# Altium schematic symbol library Socket-Library.SchLib: 8 symbols
Pins are listed as number, name and electrical type; pins without a type are passive.

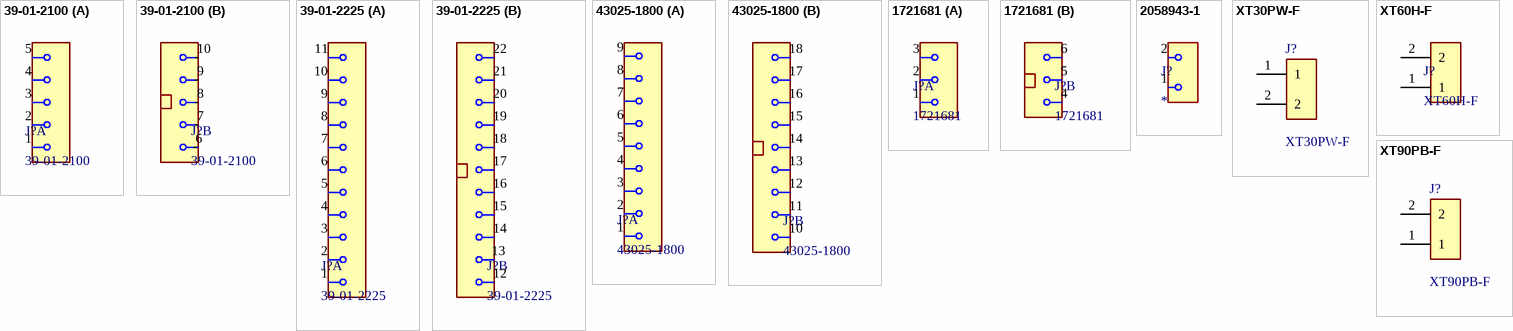
[diagram p0: symbols 39-01-2100 to XT90PB-F]

## 39-01-2100
designator J?
Power Connector, 10 Contact(s), Female, Crimp Terminal, Receptacle; Manufacturer: Molex; Connector Type: Power,Rectangular; Option: General Purpose; Filter Feature: No; Throw Configuration: S0P10; Contact Resistance: 10mR; Contact Style: SQ PIN-SKT; Dielectric Withstanding Voltage (AC): 1.5kV; Insertion Force-Max: 14.6784N; Insulation Resistance: 1GR; Mating Information: MULTIPLE MATING PARTS AVAILABLE; Number Of Connectors: 1; Number of Contacts: 10; Body Breadth: 0.46inch; Body Depth: 0.77inch; Body Length: 0.874inch; Mounting Option 1: LOCKING; Reference Standard: UL; Reliability: COMMERCIAL; Supplier: Farnell; Supplier Part Number: 2751634; Manufacturer Part Number: 39-01-2100; RoHS: Yes; Category: Headers and Wire Housings; Stock: 27370; Mounting Technology: Cable; Contact Finish - Mating: NOT SPECIFIED; Insulation Material: Nylon; Insulation Color: Natural; Shell Material: POLYAMIDE66; Body/Shell Style: RECEPTACLE; Mounting Style: STRAIGHT; Contact Gender: Female; Empty Shell: No; Mixed Contacts: No; Termination: Crimp; Flammability Rating: UL94 V-2; DIN Conformance: No; IEC Conformance: No; MIL Conformance: No; Reach SVHC Compliant: Yes; RoHS Compliant: Yes; ComponentLink1URL: https://datasheet.ciiva.com:443/pdfs/VipMasterIC/IC/MOLE/MOLE-S-A0003536895/MOLE-S-A0003534376-1.pdf?src-supplier=IHS+Markit; ComponentLink1Description: https://datasheet.ciiva.com:443/pdfs/VipMasterIC/IC/MOLE/MOLE-S-A0003536895/MOLE-S-A0003534376-1.pdf?src-supplier=IHS+Markit; ComponentLink2URL: https://datasheet.ciiva.com/19473/1968566-19473030.pdf?src-supplier=Jameco; ComponentLink2Description: https://datasheet.ciiva.com/19473/1968566-19473030.pdf?src-supplier=Jameco; ComponentLink3URL: https://datasheet.ciiva.com/16127/0039012100-crimp-housings-16127171.pdf?src-supplier=Onlinecomponents.com; ComponentLink3Description: https://datasheet.ciiva.com/16127/0039012100-crimp-housings-16127171.pdf?src-supplier=Onlinecomponents.com; ComponentLink4URL: https://datasheet.ciiva.com/11740/0900766b80460d92-11740879.pdf?src-supplier=Rs; ComponentLink4Description: https://datasheet.ciiva.com/11740/0900766b80460d92-11740879.pdf?src-supplier=Rs; ComponentLink5URL: https://datasheet.ciiva.com/5150/0039012100-crimp-housings-140011-5150159.pdf?src-supplier=Mouser; ComponentLink5Description: https://datasheet.ciiva.com/5150/0039012100-crimp-housings-140011-5150159.pdf?src-supplier=Mouser; ComponentLink6URL: https://datasheet.ciiva.com/1446/1923999-1446502.pdf?src-supplier=Element14; ComponentLink6Description: https://datasheet.ciiva.com/1446/1923999-1446502.pdf?src-supplier=Element14; ComponentLink7URL: https://datasheet.ciiva.com/10392/0039012100-crimp-housings-10392202.pdf?src-supplier=Avnet; ComponentLink7Description: https://datasheet.ciiva.com/10392/0039012100-crimp-housings-10392202.pdf?src-supplier=Avnet; ComponentLink8URL: https://datasheet.ciiva.com/30093/107550039012100-crimp-housings-30093659.pdf?src-supplier=Onlinecomponents.com; ComponentLink8Description: https://datasheet.ciiva.com/30093/107550039012100-crimp-housings-30093659.pdf?src-supplier=Onlinecomponents.com; ComponentLink9URL: https://datasheet.ciiva.com/18453/70190738-18453660.pdf?src-supplier=Allied+Electronics; ComponentLink9Description: https://datasheet.ciiva.com/18453/70190738-18453660.pdf?src-supplier=Allied+Electronics
footprint 39-01-2100
part A pins: 1, 2, 3, 4, 5
part B pins: 6, 7, 8, 9, 10

## 39-01-2225
designator J?
Power Connector, 22 Contact(s), Female, Crimp Terminal, Receptacle; Manufacturer: Molex; Connector Type: Power,Rectangular; Throw Configuration: S0P22; Option: General Purpose; Contact Resistance: 10mR; Contact Style: SQ PIN-SKT; Dielectric Withstanding Voltage (AC): 1.5kV; Empty Shell: No; Insertion Force-Max: 14.6784N; Insulation Resistance: 1GR; Mating Information: MULTIPLE MATING PARTS AVAILABLE; Number Of Connectors: 1; Number of Contacts: 22; Body Breadth: 0.46inch; Body Depth: 0.77inch; Body Length: 1.866inch; Mounting Option 1: LOCKING; Reference Standard: UL; Reliability: COMMERCIAL; Supplier: Rs; Supplier Part Number: 6704562; Manufacturer Part Number: 39-01-2225; RoHS: Yes; Category: Connectors; Stock: 520; Mounting Technology: Cable; Contact Finish - Mating: NOT SPECIFIED; Insulation Color: Natural; Insulation Material: Nylon; Shell Material: POLYAMIDE66; Body/Shell Style: RECEPTACLE; Contact Gender: Female; Filter Feature: No; Mixed Contacts: No; Mounting Style: STRAIGHT; Termination: Crimp; Flammability Rating: UL94 V-0; Reach SVHC Compliant: Yes; RoHS Compliant: Yes; DIN Conformance: No; IEC Conformance: No; MIL Conformance: No; ComponentLink1URL: https://datasheet.ciiva.com:443/pdfs/VipMasterIC/IC/MOLE/MOLE-S-A0003536895/MOLE-S-A0003534376-1.pdf?src-supplier=IHS+Markit; ComponentLink1Description: https://datasheet.ciiva.com:443/pdfs/VipMasterIC/IC/MOLE/MOLE-S-A0003536895/MOLE-S-A0003534376-1.pdf?src-supplier=IHS+Markit; ComponentLink2URL: https://datasheet.ciiva.com/19473/1968662-19473339.pdf?src-supplier=Jameco; ComponentLink2Description: https://datasheet.ciiva.com/19473/1968662-19473339.pdf?src-supplier=Jameco; ComponentLink3URL: https://datasheet.ciiva.com/10401/0039012225-crimp-housings-10401042.pdf?src-supplier=Avnet; ComponentLink3Description: https://datasheet.ciiva.com/10401/0039012225-crimp-housings-10401042.pdf?src-supplier=Avnet; ComponentLink4URL: https://datasheet.ciiva.com/16127/983660039012225-crimp-housings-16127278.pdf?src-supplier=Onlinecomponents.com; ComponentLink4Description: https://datasheet.ciiva.com/16127/983660039012225-crimp-housings-16127278.pdf?src-supplier=Onlinecomponents.com; ComponentLink5URL: https://datasheet.ciiva.com/15217/getdatasheetpartid-296930-15217964.pdf?src-supplier=Verical; ComponentLink5Description: https://datasheet.ciiva.com/15217/getdatasheetpartid-296930-15217964.pdf?src-supplier=Verical
footprint 39-01-2225
part A pins: 1, 2, 3, 4, 5, 6, 7, 8, 9, 10, 11
part B pins: 12, 13, 14, 15, 16, 17, 18, 19, 20, 21, 22

## 43025-1800
designator J?
Power Connector, 18 Contact(s), 2 Row(s), Female, 0.118 inch Pitch, Crimp Terminal, Locking, Black Insulator, Receptacle; Manufacturer: Molex; Connector Type: BOARD CONNECTOR; Throw Configuration: S0P18; Option: General Purpose; Contact Resistance: 10mR; Contact Style: SQ PIN-SKT; Filter Feature: No; Insertion Force-Max: 8.0064N; Insulation Resistance: 1GR; Mating Information: MULTIPLE MATING PARTS AVAILABLE; Number Of Connectors: 1; Number of Rows Loaded: 2; Rated Current (Signal): 2.5A; Number of Contacts: 18; Withdrawl Force-Min: 3.5584N; Body Breadth: 0.326inch; Body Depth: 0.551inch; Body Length: 1.096inch; Reference Standard: UL; Reliability: COMMERCIAL; Supplier: Farnell; Supplier Part Number: 4234966; Manufacturer Part Number: 43025-1800; RoHS: Yes; Category: Card Edge Connectors; Stock: 9541; Mounting Technology: Cable; Insulation Color: Black; Insulation Material: Polyester; Min Operating Temperature: -40°C; Max Operating Temperature: 105°C; Body/Shell Style: RECEPTACLE; Contact Gender: Female; Mixed Contacts: No; Mounting Style: STRAIGHT; Termination: Crimp; Terminal Pitch: 3mm; Mounting Option 1: LOCKING; Flammability Rating: UL94 V-0; Reach SVHC Compliant: Yes; RoHS Compliant: Yes; DIN Conformance: No; IEC Conformance: No; MIL Conformance: No; ComponentLink1URL: https://datasheet.ciiva.com:443/pdfs/VipMasterIC/IC/MOLE/MOLE-E-A0003552261/MOLE-S-A0003582151-1.pdf?src-supplier=IHS+Markit; ComponentLink1Description: https://datasheet.ciiva.com:443/pdfs/VipMasterIC/IC/MOLE/MOLE-E-A0003552261/MOLE-S-A0003582151-1.pdf?src-supplier=IHS+Markit; ComponentLink2URL: https://datasheet.ciiva.com/23663/1626445-23663448.pdf?src-supplier=Newark; ComponentLink2Description: https://datasheet.ciiva.com/23663/1626445-23663448.pdf?src-supplier=Newark; ComponentLink3URL: https://datasheet.ciiva.com/11718/0900766b805d5533-11718848.pdf?src-supplier=Rs; ComponentLink3Description: https://datasheet.ciiva.com/11718/0900766b805d5533-11718848.pdf?src-supplier=Rs; ComponentLink4URL: https://datasheet.ciiva.com/16127/990440430251800-crimp-housings-16127730.pdf?src-supplier=Onlinecomponents.com; ComponentLink4Description: https://datasheet.ciiva.com/16127/990440430251800-crimp-housings-16127730.pdf?src-supplier=Onlinecomponents.com; ComponentLink5URL: https://datasheet.ciiva.com/5149/0430251800-crimp-housings-228591-5149124.pdf?src-supplier=Mouser; ComponentLink5Description: https://datasheet.ciiva.com/5149/0430251800-crimp-housings-228591-5149124.pdf?src-supplier=Mouser; ComponentLink6URL: https://datasheet.ciiva.com/14155/04402298-14155271.pdf?src-supplier=Distrelec; ComponentLink6Description: https://datasheet.ciiva.com/14155/04402298-14155271.pdf?src-supplier=Distrelec; ComponentLink7URL: https://datasheet.ciiva.com/10392/0430251800-crimp-housings-10392086.pdf?src-supplier=Avnet; ComponentLink7Description: https://datasheet.ciiva.com/10392/0430251800-crimp-housings-10392086.pdf?src-supplier=Avnet
footprint 43025-1800
part A pins: 1, 2, 3, 4, 5, 6, 7, 8, 9
part B pins: 10, 11, 12, 13, 14, 15, 16, 17, 18

## 1721681
designator J?
Power Connector, 6 Contact(s), 2 Row(s), Female; Manufacturer: TE Connectivity; Connector Type: COMBINATION LINE CONNECTOR; Option: General Purpose; Body/Shell Style: PLUG; Contact Resistance: 10mR; Contact Style: RND PIN-SKT; Dielectric Withstanding Voltage (AC): 600V; Filter Feature: No; Insulation Resistance: 100MR; Number of Contacts: 6; Throw Configuration: S0P6; Durability: 25Cycles; Insertion Force-Max: 4.17N; Mating Information: MULTIPLE MATING PARTS AVAILABLE; Number Of Connectors: 1; Withdrawl Force-Min: 0.4726N; Body Breadth: 0.465inch; Body Depth: 0.933inch; Body Length: 0.551inch; Mounting Option 1: LOCKING; Mounting Option 2: LATCH; Reference Standard: UL; Reliability: COMMERCIAL; Supplier Part Number: 1248284; Manufacturer Part Number: 1721681; Category: Power Connectors; Stock: 18585; Mounting Technology: Panel; Contact Finish - Mating: NOT SPECIFIED; Insulation Material: Nylon; Insulation Color: Natural; Shell Material: Polyamide; Min Operating Temperature: -20°C; Max Operating Temperature: 105°C; Mounting Style: STRAIGHT; Contact Gender: Male; Empty Shell: No; Mixed Contacts: No; Flammability Rating: UL94 V-0; RoHS Compliant: Yes; DIN Conformance: No; IEC Conformance: No; MIL Conformance: No; Reach SVHC Compliant: Yes; ComponentLink1URL: https://www.te.com:443/usa-en/product-172168-1.html?src-supplier=IHS+Markit; ComponentLink1Description: https://www.te.com:443/usa-en/product-172168-1.html?src-supplier=IHS+Markit; ComponentLink2URL: https://datasheet.octopart.com/172168-1-Agastat-datasheet-14717644.pdf?src-supplier=Farnell; ComponentLink2Description: https://datasheet.octopart.com/172168-1-Agastat-datasheet-14717644.pdf?src-supplier=Farnell; ComponentLink3URL: https://datasheet.octopart.com/172168-1-Tyco-Electronics-datasheet-622444.pdf?src-supplier=Future+Electronics; ComponentLink3Description: https://datasheet.octopart.com/172168-1-Tyco-Electronics-datasheet-622444.pdf?src-supplier=Future+Electronics; ComponentLink4URL: https://datasheet.octopart.com/172168-1-TE-Connectivity-datasheet-11078203.pdf?src-supplier=Newark; ComponentLink4Description: https://datasheet.octopart.com/172168-1-TE-Connectivity-datasheet-11078203.pdf?src-supplier=Newark; ComponentLink5URL: https://datasheet.octopart.com/172168-1-TE-Connectivity-datasheet-17596220.pdf?src-supplier=TME; ComponentLink5Description: https://datasheet.octopart.com/172168-1-TE-Connectivity-datasheet-17596220.pdf?src-supplier=TME; ComponentLink6URL: https://datasheet.octopart.com/172168-1-TE-Connectivity-datasheet-11077908.pdf?src-supplier=Electro+Sonic; ComponentLink6Description: https://datasheet.octopart.com/172168-1-TE-Connectivity-datasheet-11077908.pdf?src-supplier=Electro+Sonic; ComponentLink7URL: https://datasheet.octopart.com/172168-1-TE-Connectivity---AMP-datasheet-189108365.pdf?src-supplier=Master+Electronics; ComponentLink7Description: https://datasheet.octopart.com/172168-1-TE-Connectivity---AMP-datasheet-189108365.pdf?src-supplier=Master+Electronics
footprint 172168-1
part A pins: 1, 2, 3
part B pins: 4, 5, 6

## 2058943-1
designator J?
TE Connectivity 2058943-1 MINI CT Lighting Connector Female Shrouded 2 Positions; Manufacturer Lifecycle Status: ACTIVE; Approvals: UL; Cable Length: 158.8mm; Connector Pitch: 1.4986mm; Connector Type: Socket; Connector Type A: Receptacle, Socket; Connector Type B: Free Ends; Contact Current Rating: 3A; Dielectric Material: Polyamide; Insulation Diameter: 1.03mm; Keyed: No; Number of Conductors: 2; Number of Ports: 1; Operating Supply Voltage: 70V; Preloaded: Yes; Wire/Cable Color: Black; Wire/Cable Diameter: 1.1176mm; Wire/Cable Gauge: 24AWG; Wire/Cable Type: Discrete; Wire Gauge (Min): 28AWG; Supplier: RS; Supplier Part Number: 1640975; Manufacturer: TE Connectivity; Manufacturer Part Number: 2058943-1; RoHS: Compliant; Category: Card Edge Connectors; Stock: 3335; China RoHS: Compliant; Color: Black, Red; Contact Gender: Female; Contact Plating: Tin; Current Rating: 3A; ELV: Compliant; Flammability Rating: UL94 V-0; Housing Color: White; Housing Material: Nylon; Lead Free: Lead Free; Length: 158.8008mm; Lifecycle Status: Production; Max Operating Temperature: 105°C; Min Operating Temperature: -40°C; Number of Contacts: 2; Pins: 2; Number of Positions: 2; Number of Rows: 1; Pitch: 1.4986mm; Radiation Hardening: No; REACH SVHC: Yes; Schedule B: 8544420000; Shielding: No; Termination: Crimp; Voltage Rating: 70V; Voltage Rating (AC): 70V; Wire Gauge (Max): 24AWG; ComponentLink1URL: https://datasheet.octopart.com:443/2058943-1-TE-Connectivity-datasheet-189095348.pdf?src-supplier=Master+Electronics; ComponentLink1Description: https://datasheet.octopart.com:443/2058943-1-TE-Connectivity-datasheet-189095348.pdf?src-supplier=Master+Electronics; ComponentLink2URL: https://datasheet.octopart.com:443/2058943-1-TE-Connectivity-datasheet-11097434.pdf?src-supplier=JRH+Electronics; ComponentLink2Description: https://datasheet.octopart.com:443/2058943-1-TE-Connectivity-datasheet-11097434.pdf?src-supplier=JRH+Electronics; ComponentLink3URL: https://datasheet.octopart.com:443/2058943-1-TE-Connectivity-datasheet-180014951.pdf?src-supplier=IHS; ComponentLink3Description: https://datasheet.octopart.com:443/2058943-1-TE-Connectivity-datasheet-180014951.pdf?src-supplier=IHS; ComponentLink4URL: https://datasheet.octopart.com:443/2058943-1-TE-Connectivity-datasheet-180014952.pdf?src-supplier=IHS; ComponentLink4Description: https://datasheet.octopart.com:443/2058943-1-TE-Connectivity-datasheet-180014952.pdf?src-supplier=IHS; ComponentLink5URL: https://sigma.octopart.com:443/136663159/technical_drawing/TE-Connectivity-2058943-1.pdf?src-supplier=Sager+Electronics; ComponentLink5Description: https://sigma.octopart.com:443/136663159/technical_drawing/TE-Connectivity-2058943-1.pdf?src-supplier=Sager+Electronics; ComponentLink6URL: https://datasheet.octopart.com:443/2058943-1-TE-Connectivity-datasheet-17728383.pdf?src-supplier=Newark; ComponentLink6Description: https://datasheet.octopart.com:443/2058943-1-TE-Connectivity-datasheet-17728383.pdf?src-supplier=Newark; ComponentLink7URL: https://sigma.octopart.com:443/15009531/technical_drawing/TE-Connectivity-2058943-1.pdf?src-supplier=TE+Connectivity; ComponentLink7Description: https://sigma.octopart.com:443/15009531/technical_drawing/TE-Connectivity-2058943-1.pdf?src-supplier=TE+Connectivity; ComponentLink8URL: https://datasheet.octopart.com:443/2058943-1-Tyco-Electronics-datasheet-10369055.pdf?src-supplier=Future+Electronics; ComponentLink8Description: https://datasheet.octopart.com:443/2058943-1-Tyco-Electronics-datasheet-10369055.pdf?src-supplier=Future+Electronics; ComponentLink9URL: https://datasheet.octopart.com:443/2058943-1-TE-Connectivity-datasheet-22123527.pdf?src-supplier=Future+Electronics; ComponentLink9Description: https://datasheet.octopart.com:443/2058943-1-TE-Connectivity-datasheet-22123527.pdf?src-supplier=Future+Electronics; ComponentLink10URL: https://datasheet.octopart.com:443/2058943-1-TE-Connectivity-datasheet-178034689.pdf?src-supplier=Burklin+Elektronik; ComponentLink10Description: https://datasheet.octopart.com:443/2058943-1-TE-Connectivity-datasheet-178034689.pdf?src-supplier=Burklin+Elektronik; ComponentLink11URL: https://datasheet.octopart.com:443/2058943-1-Tyco-Electronics-datasheet-8433901.pdf?src-supplier=Farnell; ComponentLink11Description: https://datasheet.octopart.com:443/2058943-1-Tyco-Electronics-datasheet-8433901.pdf?src-supplier=Farnell; ComponentLink12URL: https://datasheet.octopart.com:443/2058943-1-Tyco-Electronics-datasheet-8433865.pdf?src-supplier=Farnell; ComponentLink12Description: https://datasheet.octopart.com:443/2058943-1-Tyco-Electronics-datasheet-8433865.pdf?src-supplier=Farnell; ComponentLink13URL: http://sigma.octopart.com:80/62114439/materials_sheet/TE-Connectivity-2058943-1.pdf?src-supplier=Compliance+Statements; ComponentLink13Description: http://sigma.octopart.com:80/62114439/materials_sheet/TE-Connectivity-2058943-1.pdf?src-supplier=Compliance+Statements; ComponentLink14URL: http://sigma.octopart.com:80/15009530/rohs_certificate/Agastat-2058943-1.pdf?src-supplier=Compliance+Statements; ComponentLink14Description: http://sigma.octopart.com:80/15009530/rohs_certificate/Agastat-2058943-1.pdf?src-supplier=Compliance+Statements
footprint 2058943-1
pins: 1, 2

## XT30PW-F
designator J?
Socket; DC supply; XT30; female; PIN:2; on PCBs; THT; Colour: yellow; Manufacturer_Name: Amass; Geometry.Height: 5mm; Manufacturer_Part_Number: XT30PW-F; Mouser Part Number: *; Mouser Price/Stock: *; Arrow Part Number: *; Arrow Price/Stock: *; Datasheet Link: https://www.tme.eu/Document/ce4077e36b79046da520ca73227e15de/XT30PW%20SPEC.pdf
footprint XT30PWF
pins: 1, 2

## XT60H-F
designator J?
Socket; DC supply; XT60; Female; PIN: 2
footprint XT60H-F
pins: 1, 2

## XT90PB-F
designator J?
Connector: DC supply; socket; XT90; female; PIN: 2; on PCBs; THT; Manufacturer_Name: Amass; Geometry.Height: 19.7mm; Manufacturer_Part_Number: XT90PB-F; Mouser Part Number: *; Mouser Price/Stock: *; Arrow Part Number: *; Arrow Price/Stock: *; Datasheet Link: https://www.china-amass.com/biao/439.html; ComponentLink1Description: Octopart:; ComponentLink1URL: https://octopart.com/xt90pb-f-amass-118051300
footprint XT90PB-F
pins: 1, 2